# EAGLE library part DMG6601-LVT (library trainlib)
Dual N+P-channel MOSFET. Package: TSOT-26 Vmax=30V N-channel: 55mOhm, 3.8A Imax P-channel: 110mOhm, 2.5A Imax
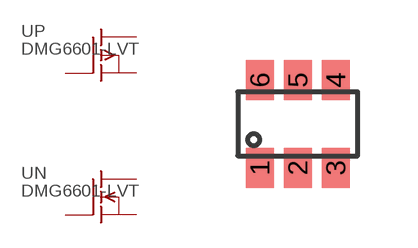
[diagram p8: symbol with the pads of TSOT-26; footprint TSOT-26]

Designator prefix -; gates N=IGFET-EN-GDS P=IGFET-EP-GDS

## DMG6601-LVT  [TSOT-26]
1  N:G  pas
2  P:S  pas
3  P:G  pas
4  P:D  pas
5  N:S  pas
6  N:D  pas

## Footprint TSOT-26 (pad centres in mm)
smd 0.7 x 1: 1 -0.95,-1.1; 2 0,-1.1; 3 0.95,-1.1; 4 0.95,1.1; 5 0,1.1; 6 -0.95,1.1